# Altium schematic symbol library WE-TVSP.SchLib: 358 symbols (part 5 of 7)
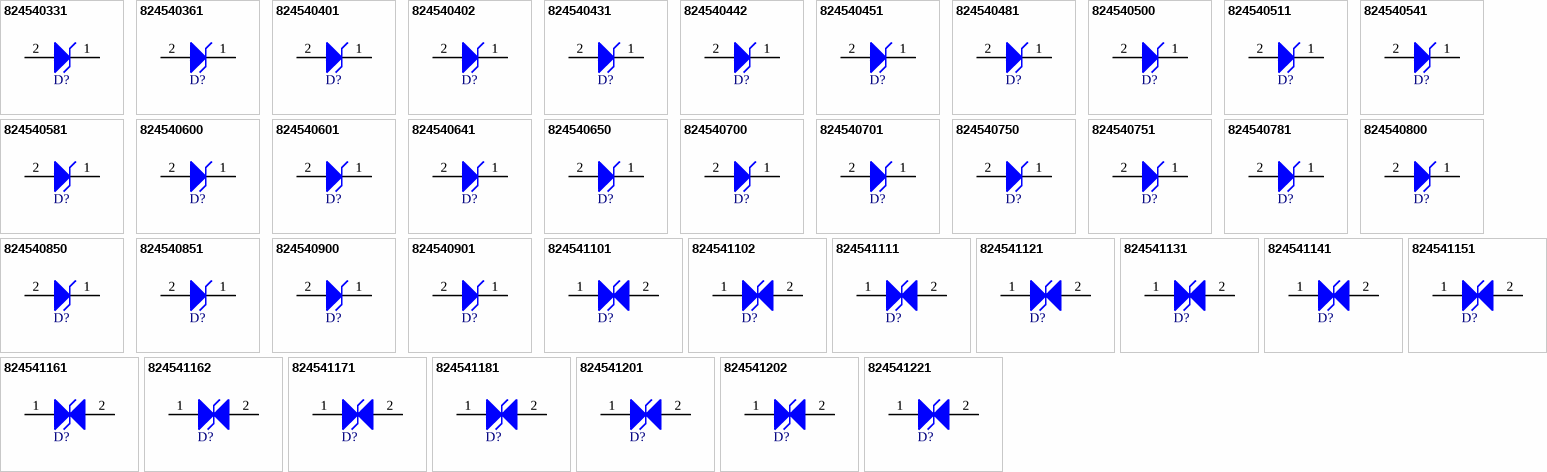
[diagram p12: symbols 824540331 to 824541221]

## 824540750
designator D?, comment 1500W, 7.5VDC  (value not drawn)
WE-TVSP SMT Power TVS Diode, DO-214AB, Unidirectional, 1500W, 7.5VDC; Manufacturer Part Number: 824540750; Manufacturer: Wurth Elektronik; Clamping Voltage: 12.9V; Operating Voltage (DC): 7.5V; (Reverse) Breakdown Voltage: 8.77V; (Reverse) Peak Pulse Current: 116.3A; ComponentLink1Description: Website Link; ComponentLink1URL: https://www.we-online.com/redexpert/article/824540750?ad; ComponentLink2Description: Datasheet Link; ComponentLink2URL: https://www.we-online.com/redexpert/spec/824540750?ad; Category: Surge Protection; Match Code: WE-TVSP; Mount: Surface Mount; Operating Temperature Max: 150°C; Operating Temperature Min: -65°C; Packaging: Tape and Reel; Case/Size Code: DO-214AB; Length: 6.86mm; Width: 5.9mm; Height: 2.5mm; Polarity: Unidirectional; Power Dissipation: 1500W
footprint WE-TVSP_DO-214AB_Unidirectional
pins: 1 K, 2 A

## 824540751
designator D?, comment 1500W, 75VDC  (value not drawn)
WE-TVSP SMT Power TVS Diode, DO-214AB, Unidirectional, 1500W, 75VDC; Manufacturer Part Number: 824540751; Manufacturer: Wurth Elektronik; Clamping Voltage: 121V; Operating Voltage (DC): 75V; (Reverse) Breakdown Voltage: 87.7V; (Reverse) Peak Pulse Current: 12.4A; ComponentLink1Description: Website Link; ComponentLink1URL: https://www.we-online.com/redexpert/article/824540751?ad; ComponentLink2Description: Datasheet Link; ComponentLink2URL: https://www.we-online.com/redexpert/spec/824540751?ad; Category: Surge Protection; Match Code: WE-TVSP; Mount: Surface Mount; Operating Temperature Max: 150°C; Operating Temperature Min: -65°C; Packaging: Tape and Reel; Case/Size Code: DO-214AB; Length: 6.86mm; Width: 5.9mm; Height: 2.5mm; Polarity: Unidirectional; Power Dissipation: 1500W
footprint WE-TVSP_DO-214AB_Unidirectional
pins: 1 K, 2 A

## 824540781
designator D?, comment 1500W, 78VDC  (value not drawn)
WE-TVSP SMT Power TVS Diode, DO-214AB, Unidirectional, 1500W, 78VDC; Manufacturer Part Number: 824540781; Manufacturer: Wurth Elektronik; Clamping Voltage: 126V; Operating Voltage (DC): 78V; (Reverse) Breakdown Voltage: 91.25V; (Reverse) Peak Pulse Current: 11.9A; ComponentLink1Description: Website Link; ComponentLink1URL: https://www.we-online.com/redexpert/article/824540781?ad; ComponentLink2Description: Datasheet Link; ComponentLink2URL: https://www.we-online.com/redexpert/spec/824540781?ad; Category: Surge Protection; Match Code: WE-TVSP; Mount: Surface Mount; Operating Temperature Max: 150°C; Operating Temperature Min: -65°C; Packaging: Tape and Reel; Case/Size Code: DO-214AB; Length: 6.86mm; Width: 5.9mm; Height: 2.5mm; Polarity: Unidirectional; Power Dissipation: 1500W
footprint WE-TVSP_DO-214AB_Unidirectional
pins: 1 K, 2 A

## 824540800
designator D?, comment 1500W, 8VDC  (value not drawn)
WE-TVSP SMT Power TVS Diode, DO-214AB, Unidirectional, 1500W, 8VDC; Manufacturer Part Number: 824540800; Manufacturer: Wurth Elektronik; Clamping Voltage: 13.6V; Operating Voltage (DC): 8V; (Reverse) Breakdown Voltage: 9.36V; (Reverse) Peak Pulse Current: 110.3A; ComponentLink1Description: Website Link; ComponentLink1URL: https://www.we-online.com/redexpert/article/824540800?ad; ComponentLink2Description: Datasheet Link; ComponentLink2URL: https://www.we-online.com/redexpert/spec/824540800?ad; Category: Surge Protection; Match Code: WE-TVSP; Mount: Surface Mount; Operating Temperature Max: 150°C; Operating Temperature Min: -65°C; Packaging: Tape and Reel; Case/Size Code: DO-214AB; Length: 6.86mm; Width: 5.9mm; Height: 2.5mm; Polarity: Unidirectional; Power Dissipation: 1500W
footprint WE-TVSP_DO-214AB_Unidirectional
pins: 1 K, 2 A

## 824540850
designator D?, comment 1500W, 8.5VDC  (value not drawn)
WE-TVSP SMT Power TVS Diode, DO-214AB, Unidirectional, 1500W, 8.5VDC; Manufacturer Part Number: 824540850; Manufacturer: Wurth Elektronik; Clamping Voltage: 14.4V; Operating Voltage (DC): 8.5V; (Reverse) Breakdown Voltage: 9.92V; (Reverse) Peak Pulse Current: 104.2A; ComponentLink1Description: Website Link; ComponentLink1URL: https://www.we-online.com/redexpert/article/824540850?ad; ComponentLink2Description: Datasheet Link; ComponentLink2URL: https://www.we-online.com/redexpert/spec/824540850?ad; Category: Surge Protection; Match Code: WE-TVSP; Mount: Surface Mount; Operating Temperature Max: 150°C; Operating Temperature Min: -65°C; Packaging: Tape and Reel; Case/Size Code: DO-214AB; Length: 6.86mm; Width: 5.9mm; Height: 2.5mm; Polarity: Unidirectional; Power Dissipation: 1500W
footprint WE-TVSP_DO-214AB_Unidirectional
pins: 1 K, 2 A

## 824540851
designator D?, comment 1500W, 85VDC  (value not drawn)
WE-TVSP SMT Power TVS Diode, DO-214AB, Unidirectional, 1500W, 85VDC; Manufacturer Part Number: 824540851; Manufacturer: Wurth Elektronik; Clamping Voltage: 137V; Operating Voltage (DC): 85V; (Reverse) Breakdown Voltage: 99.2V; (Reverse) Peak Pulse Current: 11A; ComponentLink1Description: Website Link; ComponentLink1URL: https://www.we-online.com/redexpert/article/824540851?ad; ComponentLink2Description: Datasheet Link; ComponentLink2URL: https://www.we-online.com/redexpert/spec/824540851?ad; Category: Surge Protection; Match Code: WE-TVSP; Mount: Surface Mount; Operating Temperature Max: 150°C; Operating Temperature Min: -65°C; Packaging: Tape and Reel; Case/Size Code: DO-214AB; Length: 6.86mm; Width: 5.9mm; Height: 2.5mm; Polarity: Unidirectional; Power Dissipation: 1500W
footprint WE-TVSP_DO-214AB_Unidirectional
pins: 1 K, 2 A

## 824540900
designator D?, comment 1500W, 9VDC  (value not drawn)
WE-TVSP SMT Power TVS Diode, DO-214AB, Unidirectional, 1500W, 9VDC; Manufacturer Part Number: 824540900; Manufacturer: Wurth Elektronik; Clamping Voltage: 15.4V; Operating Voltage (DC): 9V; (Reverse) Breakdown Voltage: 10.55V; (Reverse) Peak Pulse Current: 97.4A; ComponentLink1Description: Website Link; ComponentLink1URL: https://www.we-online.com/redexpert/article/824540900?ad; ComponentLink2Description: Datasheet Link; ComponentLink2URL: https://www.we-online.com/redexpert/spec/824540900?ad; Category: Surge Protection; Match Code: WE-TVSP; Mount: Surface Mount; Operating Temperature Max: 150°C; Operating Temperature Min: -65°C; Packaging: Tape and Reel; Case/Size Code: DO-214AB; Length: 6.86mm; Width: 5.9mm; Height: 2.5mm; Polarity: Unidirectional; Power Dissipation: 1500W
footprint WE-TVSP_DO-214AB_Unidirectional
pins: 1 K, 2 A

## 824540901
designator D?, comment 1500W, 90VDC  (value not drawn)
WE-TVSP SMT Power TVS Diode, DO-214AB, Unidirectional, 1500W, 90VDC; Manufacturer Part Number: 824540901; Manufacturer: Wurth Elektronik; Clamping Voltage: 146V; Operating Voltage (DC): 90V; (Reverse) Breakdown Voltage: 105.5V; (Reverse) Peak Pulse Current: 10.3A; ComponentLink1Description: Website Link; ComponentLink1URL: https://www.we-online.com/redexpert/article/824540901?ad; ComponentLink2Description: Datasheet Link; ComponentLink2URL: https://www.we-online.com/redexpert/spec/824540901?ad; Category: Surge Protection; Match Code: WE-TVSP; Mount: Surface Mount; Operating Temperature Max: 150°C; Operating Temperature Min: -65°C; Packaging: Tape and Reel; Case/Size Code: DO-214AB; Length: 6.86mm; Width: 5.9mm; Height: 2.5mm; Polarity: Unidirectional; Power Dissipation: 1500W
footprint WE-TVSP_DO-214AB_Unidirectional
pins: 1 K, 2 A

## 824541101
designator D?, comment 1500W, 10VDC  (value not drawn)
WE-TVSP SMT Power TVS Diode, DO-214AB, Bidirectional, 1500W, 10VDC; Manufacturer Part Number: 824541101; Manufacturer: Wurth Elektronik; Clamping Voltage: 17V; Operating Voltage (DC): 10V; (Reverse) Breakdown Voltage: 11.7V; (Reverse) Peak Pulse Current: 88.3A; ComponentLink1Description: Website Link; ComponentLink1URL: https://www.we-online.com/redexpert/article/824541101?ad; ComponentLink2Description: Datasheet Link; ComponentLink2URL: https://www.we-online.com/redexpert/spec/824541101?ad; Category: Surge Protection; Match Code: WE-TVSP; Mount: Surface Mount; Operating Temperature Max: 150°C; Operating Temperature Min: -65°C; Packaging: Tape and Reel; Case/Size Code: DO-214AB; Length: 6.86mm; Width: 5.9mm; Height: 2.5mm; Polarity: Bidirectional; Power Dissipation: 1500W
footprint WE-TVSP_DO-214AB_Bidirectional
pins: 1, 2

## 824541102
designator D?, comment 1500W, 100VDC  (value not drawn)
WE-TVSP SMT Power TVS Diode, DO-214AB, Bidirectional, 1500W, 100VDC; Manufacturer Part Number: 824541102; Manufacturer: Wurth Elektronik; Clamping Voltage: 162V; Operating Voltage (DC): 100V; (Reverse) Breakdown Voltage: 117V; (Reverse) Peak Pulse Current: 9.3A; ComponentLink1Description: Website Link; ComponentLink1URL: https://www.we-online.com/redexpert/article/824541102?ad; ComponentLink2Description: Datasheet Link; ComponentLink2URL: https://www.we-online.com/redexpert/spec/824541102?ad; Category: Surge Protection; Match Code: WE-TVSP; Mount: Surface Mount; Operating Temperature Max: 150°C; Operating Temperature Min: -65°C; Packaging: Tape and Reel; Case/Size Code: DO-214AB; Length: 6.86mm; Width: 5.9mm; Height: 2.5mm; Polarity: Bidirectional; Power Dissipation: 1500W
footprint WE-TVSP_DO-214AB_Bidirectional
pins: 1, 2

## 824541111
designator D?, comment 1500W, 11VDC  (value not drawn)
WE-TVSP SMT Power TVS Diode, DO-214AB, Bidirectional, 1500W, 11VDC; Manufacturer Part Number: 824541111; Manufacturer: Wurth Elektronik; Clamping Voltage: 18.2V; Operating Voltage (DC): 11V; (Reverse) Breakdown Voltage: 12.85V; (Reverse) Peak Pulse Current: 82.5A; ComponentLink1Description: Website Link; ComponentLink1URL: https://www.we-online.com/redexpert/article/824541111?ad; ComponentLink2Description: Datasheet Link; ComponentLink2URL: https://www.we-online.com/redexpert/spec/824541111?ad; Category: Surge Protection; Match Code: WE-TVSP; Mount: Surface Mount; Operating Temperature Max: 150°C; Operating Temperature Min: -65°C; Packaging: Tape and Reel; Case/Size Code: DO-214AB; Length: 6.86mm; Width: 5.9mm; Height: 2.5mm; Polarity: Bidirectional; Power Dissipation: 1500W
footprint WE-TVSP_DO-214AB_Bidirectional
pins: 1, 2

## 824541121
designator D?, comment 1500W, 12VDC  (value not drawn)
WE-TVSP SMT Power TVS Diode, DO-214AB, Bidirectional, 1500W, 12VDC; Manufacturer Part Number: 824541121; Manufacturer: Wurth Elektronik; Clamping Voltage: 19.9V; Operating Voltage (DC): 12V; (Reverse) Breakdown Voltage: 14V; (Reverse) Peak Pulse Current: 75.4A; ComponentLink1Description: Website Link; ComponentLink1URL: https://www.we-online.com/redexpert/article/824541121?ad; ComponentLink2Description: Datasheet Link; ComponentLink2URL: https://www.we-online.com/redexpert/spec/824541121?ad; Category: Surge Protection; Match Code: WE-TVSP; Mount: Surface Mount; Operating Temperature Max: 150°C; Operating Temperature Min: -65°C; Packaging: Tape and Reel; Case/Size Code: DO-214AB; Length: 6.86mm; Width: 5.9mm; Height: 2.5mm; Polarity: Bidirectional; Power Dissipation: 1500W
footprint WE-TVSP_DO-214AB_Bidirectional
pins: 1, 2

## 824541131
designator D?, comment 1500W, 13VDC  (value not drawn)
WE-TVSP SMT Power TVS Diode, DO-214AB, Bidirectional, 1500W, 13VDC; Manufacturer Part Number: 824541131; Manufacturer: Wurth Elektronik; Clamping Voltage: 21.5V; Operating Voltage (DC): 13V; (Reverse) Breakdown Voltage: 15.15V; (Reverse) Peak Pulse Current: 69.8A; ComponentLink1Description: Website Link; ComponentLink1URL: https://www.we-online.com/redexpert/article/824541131?ad; ComponentLink2Description: Datasheet Link; ComponentLink2URL: https://www.we-online.com/redexpert/spec/824541131?ad; Category: Surge Protection; Match Code: WE-TVSP; Mount: Surface Mount; Operating Temperature Max: 150°C; Operating Temperature Min: -65°C; Packaging: Tape and Reel; Case/Size Code: DO-214AB; Length: 6.86mm; Width: 5.9mm; Height: 2.5mm; Polarity: Bidirectional; Power Dissipation: 1500W
footprint WE-TVSP_DO-214AB_Bidirectional
pins: 1, 2

## 824541141
designator D?, comment 1500W, 14VDC  (value not drawn)
WE-TVSP SMT Power TVS Diode, DO-214AB, Bidirectional, 1500W, 14VDC; Manufacturer Part Number: 824541141; Manufacturer: Wurth Elektronik; Clamping Voltage: 23.2V; Operating Voltage (DC): 14V; (Reverse) Breakdown Voltage: 16.4V; (Reverse) Peak Pulse Current: 64.7A; ComponentLink1Description: Website Link; ComponentLink1URL: https://www.we-online.com/redexpert/article/824541141?ad; ComponentLink2Description: Datasheet Link; ComponentLink2URL: https://www.we-online.com/redexpert/spec/824541141?ad; Category: Surge Protection; Match Code: WE-TVSP; Mount: Surface Mount; Operating Temperature Max: 150°C; Operating Temperature Min: -65°C; Packaging: Tape and Reel; Case/Size Code: DO-214AB; Length: 6.86mm; Width: 5.9mm; Height: 2.5mm; Polarity: Bidirectional; Power Dissipation: 1500W
footprint WE-TVSP_DO-214AB_Bidirectional
pins: 1, 2

## 824541151
designator D?, comment 1500W, 15VDC  (value not drawn)
WE-TVSP SMT Power TVS Diode, DO-214AB, Bidirectional, 1500W, 15VDC; Manufacturer Part Number: 824541151; Manufacturer: Wurth Elektronik; Clamping Voltage: 24.4V; Operating Voltage (DC): 15V; (Reverse) Breakdown Voltage: 17.6V; (Reverse) Peak Pulse Current: 61.5A; ComponentLink1Description: Website Link; ComponentLink1URL: https://www.we-online.com/redexpert/article/824541151?ad; ComponentLink2Description: Datasheet Link; ComponentLink2URL: https://www.we-online.com/redexpert/spec/824541151?ad; Category: Surge Protection; Match Code: WE-TVSP; Mount: Surface Mount; Operating Temperature Max: 150°C; Operating Temperature Min: -65°C; Packaging: Tape and Reel; Case/Size Code: DO-214AB; Length: 6.86mm; Width: 5.9mm; Height: 2.5mm; Polarity: Bidirectional; Power Dissipation: 1500W
footprint WE-TVSP_DO-214AB_Bidirectional
pins: 1, 2

## 824541161
designator D?, comment 1500W, 16VDC  (value not drawn)
WE-TVSP SMT Power TVS Diode, DO-214AB, Bidirectional, 1500W, 16VDC; Manufacturer Part Number: 824541161; Manufacturer: Wurth Elektronik; Clamping Voltage: 26V; Operating Voltage (DC): 16V; (Reverse) Breakdown Voltage: 18.75V; (Reverse) Peak Pulse Current: 57.7A; ComponentLink1Description: Website Link; ComponentLink1URL: https://www.we-online.com/redexpert/article/824541161?ad; ComponentLink2Description: Datasheet Link; ComponentLink2URL: https://www.we-online.com/redexpert/spec/824541161?ad; Category: Surge Protection; Match Code: WE-TVSP; Mount: Surface Mount; Operating Temperature Max: 150°C; Operating Temperature Min: -65°C; Packaging: Tape and Reel; Case/Size Code: DO-214AB; Length: 6.86mm; Width: 5.9mm; Height: 2.5mm; Polarity: Bidirectional; Power Dissipation: 1500W
footprint WE-TVSP_DO-214AB_Bidirectional
pins: 1, 2

## 824541162
designator D?, comment 1500W, 160VDC  (value not drawn)
WE-TVSP SMT Power TVS Diode, DO-214AB, Bidirectional, 1500W, 160VDC; Manufacturer Part Number: 824541162; Manufacturer: Wurth Elektronik; Clamping Voltage: 259V; Operating Voltage (DC): 160V; (Reverse) Breakdown Voltage: 187.5V; (Reverse) Peak Pulse Current: 5.8A; ComponentLink1Description: Website Link; ComponentLink1URL: https://www.we-online.com/redexpert/article/824541162?ad; ComponentLink2Description: Datasheet Link; ComponentLink2URL: https://www.we-online.com/redexpert/spec/824541162?ad; Category: Surge Protection; Match Code: WE-TVSP; Mount: Surface Mount; Operating Temperature Max: 150°C; Operating Temperature Min: -65°C; Packaging: Tape and Reel; Case/Size Code: DO-214AB; Length: 6.86mm; Width: 5.9mm; Height: 2.5mm; Polarity: Bidirectional; Power Dissipation: 1500W
footprint WE-TVSP_DO-214AB_Bidirectional
pins: 1, 2

## 824541171
designator D?, comment 1500W, 17VDC  (value not drawn)
WE-TVSP SMT Power TVS Diode, DO-214AB, Bidirectional, 1500W, 17VDC; Manufacturer Part Number: 824541171; Manufacturer: Wurth Elektronik; Clamping Voltage: 27.6V; Operating Voltage (DC): 17V; (Reverse) Breakdown Voltage: 19.9V; (Reverse) Peak Pulse Current: 54.4A; ComponentLink1Description: Website Link; ComponentLink1URL: https://www.we-online.com/redexpert/article/824541171?ad; ComponentLink2Description: Datasheet Link; ComponentLink2URL: https://www.we-online.com/redexpert/spec/824541171?ad; Category: Surge Protection; Match Code: WE-TVSP; Mount: Surface Mount; Operating Temperature Max: 150°C; Operating Temperature Min: -65°C; Packaging: Tape and Reel; Case/Size Code: DO-214AB; Length: 6.86mm; Width: 5.9mm; Height: 2.5mm; Polarity: Bidirectional; Power Dissipation: 1500W
footprint WE-TVSP_DO-214AB_Bidirectional
pins: 1, 2

## 824541181
designator D?, comment 1500W, 18VDC  (value not drawn)
WE-TVSP SMT Power TVS Diode, DO-214AB, Bidirectional, 1500W, 18VDC; Manufacturer Part Number: 824541181; Manufacturer: Wurth Elektronik; Clamping Voltage: 29.2V; Operating Voltage (DC): 18V; (Reverse) Breakdown Voltage: 21.05V; (Reverse) Peak Pulse Current: 51.4A; ComponentLink1Description: Website Link; ComponentLink1URL: https://www.we-online.com/redexpert/article/824541181?ad; ComponentLink2Description: Datasheet Link; ComponentLink2URL: https://www.we-online.com/redexpert/spec/824541181?ad; Category: Surge Protection; Match Code: WE-TVSP; Mount: Surface Mount; Operating Temperature Max: 150°C; Operating Temperature Min: -65°C; Packaging: Tape and Reel; Case/Size Code: DO-214AB; Length: 6.86mm; Width: 5.9mm; Height: 2.5mm; Polarity: Bidirectional; Power Dissipation: 1500W
footprint WE-TVSP_DO-214AB_Bidirectional
pins: 1, 2

## 824541201
designator D?, comment 1500W, 20VDC  (value not drawn)
WE-TVSP SMT Power TVS Diode, DO-214AB, Bidirectional, 1500W, 20VDC; Manufacturer Part Number: 824541201; Manufacturer: Wurth Elektronik; Clamping Voltage: 32.4V; Operating Voltage (DC): 20V; (Reverse) Breakdown Voltage: 23.35V; (Reverse) Peak Pulse Current: 46.3A; ComponentLink1Description: Website Link; ComponentLink1URL: https://www.we-online.com/redexpert/article/824541201?ad; ComponentLink2Description: Datasheet Link; ComponentLink2URL: https://www.we-online.com/redexpert/spec/824541201?ad; Category: Surge Protection; Match Code: WE-TVSP; Mount: Surface Mount; Operating Temperature Max: 150°C; Operating Temperature Min: -65°C; Packaging: Tape and Reel; Case/Size Code: DO-214AB; Length: 6.86mm; Width: 5.9mm; Height: 2.5mm; Polarity: Bidirectional; Power Dissipation: 1500W
footprint WE-TVSP_DO-214AB_Bidirectional
pins: 1, 2

## 824541202
designator D?, comment 1500W, 200VDC  (value not drawn)
WE-TVSP SMT Power TVS Diode, DO-214AB, Bidirectional, 1500W, 200VDC; Manufacturer Part Number: 824541202; Manufacturer: Wurth Elektronik; Clamping Voltage: 324V; Operating Voltage (DC): 200V; (Reverse) Breakdown Voltage: 235.5V; (Reverse) Peak Pulse Current: 4.6A; ComponentLink1Description: Website Link; ComponentLink1URL: https://www.we-online.com/redexpert/article/824541202?ad; ComponentLink2Description: Datasheet Link; ComponentLink2URL: https://www.we-online.com/redexpert/spec/824541202?ad; Category: Surge Protection; Match Code: WE-TVSP; Mount: Surface Mount; Operating Temperature Max: 150°C; Operating Temperature Min: -65°C; Packaging: Tape and Reel; Case/Size Code: DO-214AB; Length: 6.86mm; Width: 5.9mm; Height: 2.5mm; Polarity: Bidirectional; Power Dissipation: 1500W
footprint WE-TVSP_DO-214AB_Bidirectional
pins: 1, 2

## 824541221
designator D?, comment 1500W, 22VDC  (value not drawn)
WE-TVSP SMT Power TVS Diode, DO-214AB, Bidirectional, 1500W, 22VDC; Manufacturer Part Number: 824541221; Manufacturer: Wurth Elektronik; Clamping Voltage: 35.5V; Operating Voltage (DC): 22V; (Reverse) Breakdown Voltage: 25.65V; (Reverse) Peak Pulse Current: 42.3A; ComponentLink1Description: Website Link; ComponentLink1URL: https://www.we-online.com/redexpert/article/824541221?ad; ComponentLink2Description: Datasheet Link; ComponentLink2URL: https://www.we-online.com/redexpert/spec/824541221?ad; Category: Surge Protection; Match Code: WE-TVSP; Mount: Surface Mount; Operating Temperature Max: 150°C; Operating Temperature Min: -65°C; Packaging: Tape and Reel; Case/Size Code: DO-214AB; Length: 6.86mm; Width: 5.9mm; Height: 2.5mm; Polarity: Bidirectional; Power Dissipation: 1500W
footprint WE-TVSP_DO-214AB_Bidirectional
pins: 1, 2

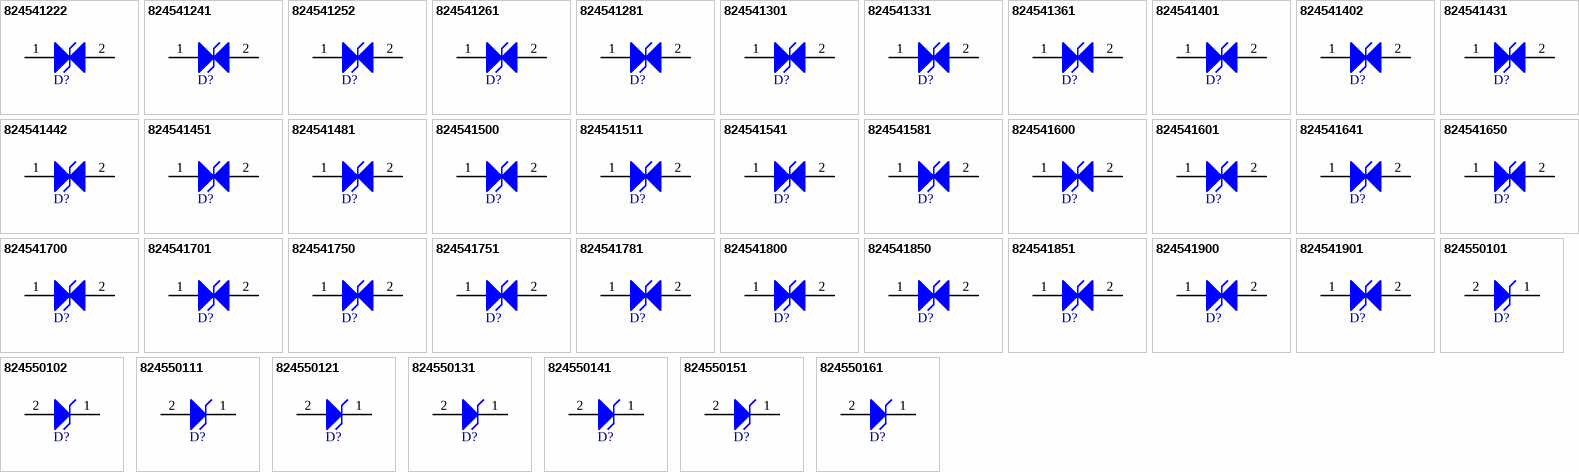
[diagram p6: symbols 824541222 to 824550161]

## 824541222
designator D?, comment 1500W, 220VDC  (value not drawn)
WE-TVSP SMT Power TVS Diode, DO-214AB, Bidirectional, 1500W, 220VDC; Manufacturer Part Number: 824541222; Manufacturer: Wurth Elektronik; Clamping Voltage: 356V; Operating Voltage (DC): 220V; (Reverse) Breakdown Voltage: 259V; (Reverse) Peak Pulse Current: 4.2A; ComponentLink1Description: Website Link; ComponentLink1URL: https://www.we-online.com/redexpert/article/824541222?ad; ComponentLink2Description: Datasheet Link; ComponentLink2URL: https://www.we-online.com/redexpert/spec/824541222?ad; Category: Surge Protection; Match Code: WE-TVSP; Mount: Surface Mount; Operating Temperature Max: 150°C; Operating Temperature Min: -65°C; Packaging: Tape and Reel; Case/Size Code: DO-214AB; Length: 6.86mm; Width: 5.9mm; Height: 2.5mm; Polarity: Bidirectional; Power Dissipation: 1500W
footprint WE-TVSP_DO-214AB_Bidirectional
pins: 1, 2

## 824541241
designator D?, comment 1500W, 24VDC  (value not drawn)
WE-TVSP SMT Power TVS Diode, DO-214AB, Bidirectional, 1500W, 24VDC; Manufacturer Part Number: 824541241; Manufacturer: Wurth Elektronik; Clamping Voltage: 38.9V; Operating Voltage (DC): 24V; (Reverse) Breakdown Voltage: 28.1V; (Reverse) Peak Pulse Current: 38.6A; ComponentLink1Description: Website Link; ComponentLink1URL: https://www.we-online.com/redexpert/article/824541241?ad; ComponentLink2Description: Datasheet Link; ComponentLink2URL: https://www.we-online.com/redexpert/spec/824541241?ad; Category: Surge Protection; Match Code: WE-TVSP; Mount: Surface Mount; Operating Temperature Max: 150°C; Operating Temperature Min: -65°C; Packaging: Tape and Reel; Case/Size Code: DO-214AB; Length: 6.86mm; Width: 5.9mm; Height: 2.5mm; Polarity: Bidirectional; Power Dissipation: 1500W
footprint WE-TVSP_DO-214AB_Bidirectional
pins: 1, 2

## 824541252
designator D?, comment 1500W, 250VDC  (value not drawn)
WE-TVSP SMT Power TVS Diode, DO-214AB, Bidirectional, 1500W, 250VDC; Manufacturer Part Number: 824541252; Manufacturer: Wurth Elektronik; Clamping Voltage: 405V; Operating Voltage (DC): 250V; (Reverse) Breakdown Voltage: 294V; (Reverse) Peak Pulse Current: 3.7A; ComponentLink1Description: Website Link; ComponentLink1URL: https://www.we-online.com/redexpert/article/824541252?ad; ComponentLink2Description: Datasheet Link; ComponentLink2URL: https://www.we-online.com/redexpert/spec/824541252?ad; Category: Surge Protection; Match Code: WE-TVSP; Mount: Surface Mount; Operating Temperature Max: 150°C; Operating Temperature Min: -65°C; Packaging: Tape and Reel; Case/Size Code: DO-214AB; Length: 6.86mm; Width: 5.9mm; Height: 2.5mm; Polarity: Bidirectional; Power Dissipation: 1500W
footprint WE-TVSP_DO-214AB_Bidirectional
pins: 1, 2

## 824541261
designator D?, comment 1500W, 26VDC  (value not drawn)
WE-TVSP SMT Power TVS Diode, DO-214AB, Bidirectional, 1500W, 26VDC; Manufacturer Part Number: 824541261; Manufacturer: Wurth Elektronik; Clamping Voltage: 42.1V; Operating Voltage (DC): 26V; (Reverse) Breakdown Voltage: 30.4V; (Reverse) Peak Pulse Current: 35.7A; ComponentLink1Description: Website Link; ComponentLink1URL: https://www.we-online.com/redexpert/article/824541261?ad; ComponentLink2Description: Datasheet Link; ComponentLink2URL: https://www.we-online.com/redexpert/spec/824541261?ad; Category: Surge Protection; Match Code: WE-TVSP; Mount: Surface Mount; Operating Temperature Max: 150°C; Operating Temperature Min: -65°C; Packaging: Tape and Reel; Case/Size Code: DO-214AB; Length: 6.86mm; Width: 5.9mm; Height: 2.5mm; Polarity: Bidirectional; Power Dissipation: 1500W
footprint WE-TVSP_DO-214AB_Bidirectional
pins: 1, 2

## 824541281
designator D?, comment 1500W, 28VDC  (value not drawn)
WE-TVSP SMT Power TVS Diode, DO-214AB, Bidirectional, 1500W, 28VDC; Manufacturer Part Number: 824541281; Manufacturer: Wurth Elektronik; Clamping Voltage: 45.4V; Operating Voltage (DC): 28V; (Reverse) Breakdown Voltage: 32.75V; (Reverse) Peak Pulse Current: 33.1A; ComponentLink1Description: Website Link; ComponentLink1URL: https://www.we-online.com/redexpert/article/824541281?ad; ComponentLink2Description: Datasheet Link; ComponentLink2URL: https://www.we-online.com/redexpert/spec/824541281?ad; Category: Surge Protection; Match Code: WE-TVSP; Mount: Surface Mount; Operating Temperature Max: 150°C; Operating Temperature Min: -65°C; Packaging: Tape and Reel; Case/Size Code: DO-214AB; Length: 6.86mm; Width: 5.9mm; Height: 2.5mm; Polarity: Bidirectional; Power Dissipation: 1500W
footprint WE-TVSP_DO-214AB_Bidirectional
pins: 1, 2

## 824541301
designator D?, comment 1500W, 30VDC  (value not drawn)
WE-TVSP SMT Power TVS Diode, DO-214AB, Bidirectional, 1500W, 30VDC; Manufacturer Part Number: 824541301; Manufacturer: Wurth Elektronik; Clamping Voltage: 48.4V; Operating Voltage (DC): 30V; (Reverse) Breakdown Voltage: 35.05V; (Reverse) Peak Pulse Current: 31A; ComponentLink1Description: Website Link; ComponentLink1URL: https://www.we-online.com/redexpert/article/824541301?ad; ComponentLink2Description: Datasheet Link; ComponentLink2URL: https://www.we-online.com/redexpert/spec/824541301?ad; Category: Surge Protection; Match Code: WE-TVSP; Mount: Surface Mount; Operating Temperature Max: 150°C; Operating Temperature Min: -65°C; Packaging: Tape and Reel; Case/Size Code: DO-214AB; Length: 6.86mm; Width: 5.9mm; Height: 2.5mm; Polarity: Bidirectional; Power Dissipation: 1500W
footprint WE-TVSP_DO-214AB_Bidirectional
pins: 1, 2

## 824541331
designator D?, comment 1500W, 33VDC  (value not drawn)
WE-TVSP SMT Power TVS Diode, DO-214AB, Bidirectional, 1500W, 33VDC; Manufacturer Part Number: 824541331; Manufacturer: Wurth Elektronik; Clamping Voltage: 53.3V; Operating Voltage (DC): 33V; (Reverse) Breakdown Voltage: 38.65V; (Reverse) Peak Pulse Current: 28.2A; ComponentLink1Description: Website Link; ComponentLink1URL: https://www.we-online.com/redexpert/article/824541331?ad; ComponentLink2Description: Datasheet Link; ComponentLink2URL: https://www.we-online.com/redexpert/spec/824541331?ad; Category: Surge Protection; Match Code: WE-TVSP; Mount: Surface Mount; Operating Temperature Max: 150°C; Operating Temperature Min: -65°C; Packaging: Tape and Reel; Case/Size Code: DO-214AB; Length: 6.86mm; Width: 5.9mm; Height: 2.5mm; Polarity: Bidirectional; Power Dissipation: 1500W
footprint WE-TVSP_DO-214AB_Bidirectional
pins: 1, 2

## 824541361
designator D?, comment 1500W, 36VDC  (value not drawn)
WE-TVSP SMT Power TVS Diode, DO-214AB, Bidirectional, 1500W, 36VDC; Manufacturer Part Number: 824541361; Manufacturer: Wurth Elektronik; Clamping Voltage: 58.1V; Operating Voltage (DC): 36V; (Reverse) Breakdown Voltage: 42.1V; (Reverse) Peak Pulse Current: 25.9A; ComponentLink1Description: Website Link; ComponentLink1URL: https://www.we-online.com/redexpert/article/824541361?ad; ComponentLink2Description: Datasheet Link; ComponentLink2URL: https://www.we-online.com/redexpert/spec/824541361?ad; Category: Surge Protection; Match Code: WE-TVSP; Mount: Surface Mount; Operating Temperature Max: 150°C; Operating Temperature Min: -65°C; Packaging: Tape and Reel; Case/Size Code: DO-214AB; Length: 6.86mm; Width: 5.9mm; Height: 2.5mm; Polarity: Bidirectional; Power Dissipation: 1500W
footprint WE-TVSP_DO-214AB_Bidirectional
pins: 1, 2

## 824541401
designator D?, comment 1500W, 40VDC  (value not drawn)
WE-TVSP SMT Power TVS Diode, DO-214AB, Bidirectional, 1500W, 40VDC; Manufacturer Part Number: 824541401; Manufacturer: Wurth Elektronik; Clamping Voltage: 64.5V; Operating Voltage (DC): 40V; (Reverse) Breakdown Voltage: 46.75V; (Reverse) Peak Pulse Current: 23.3A; ComponentLink1Description: Website Link; ComponentLink1URL: https://www.we-online.com/redexpert/article/824541401?ad; ComponentLink2Description: Datasheet Link; ComponentLink2URL: https://www.we-online.com/redexpert/spec/824541401?ad; Category: Surge Protection; Match Code: WE-TVSP; Mount: Surface Mount; Operating Temperature Max: 150°C; Operating Temperature Min: -65°C; Packaging: Tape and Reel; Case/Size Code: DO-214AB; Length: 6.86mm; Width: 5.9mm; Height: 2.5mm; Polarity: Bidirectional; Power Dissipation: 1500W
footprint WE-TVSP_DO-214AB_Bidirectional
pins: 1, 2

## 824541402
designator D?, comment 1500W, 400VDC  (value not drawn)
WE-TVSP SMT Power TVS Diode, DO-214AB, Bidirectional, 1500W, 400VDC; Manufacturer Part Number: 824541402; Manufacturer: Wurth Elektronik; Clamping Voltage: 648V; Operating Voltage (DC): 400V; (Reverse) Breakdown Voltage: 470.5V; (Reverse) Peak Pulse Current: 2.3A; ComponentLink1Description: Website Link; ComponentLink1URL: https://www.we-online.com/redexpert/article/824541402?ad; ComponentLink2Description: Datasheet Link; ComponentLink2URL: https://www.we-online.com/redexpert/spec/824541402?ad; Category: Surge Protection; Match Code: WE-TVSP; Mount: Surface Mount; Operating Temperature Max: 150°C; Operating Temperature Min: -65°C; Packaging: Tape and Reel; Case/Size Code: DO-214AB; Length: 6.86mm; Width: 5.9mm; Height: 2.5mm; Polarity: Bidirectional; Power Dissipation: 1500W
footprint WE-TVSP_DO-214AB_Bidirectional
pins: 1, 2

## 824541431
designator D?, comment 1500W, 43VDC  (value not drawn)
WE-TVSP SMT Power TVS Diode, DO-214AB, Bidirectional, 1500W, 43VDC; Manufacturer Part Number: 824541431; Manufacturer: Wurth Elektronik; Clamping Voltage: 69.4V; Operating Voltage (DC): 43V; (Reverse) Breakdown Voltage: 50.3V; (Reverse) Peak Pulse Current: 21.7A; ComponentLink1Description: Website Link; ComponentLink1URL: https://www.we-online.com/redexpert/article/824541431?ad; ComponentLink2Description: Datasheet Link; ComponentLink2URL: https://www.we-online.com/redexpert/spec/824541431?ad; Category: Surge Protection; Match Code: WE-TVSP; Mount: Surface Mount; Operating Temperature Max: 150°C; Operating Temperature Min: -65°C; Packaging: Tape and Reel; Case/Size Code: DO-214AB; Length: 6.86mm; Width: 5.9mm; Height: 2.5mm; Polarity: Bidirectional; Power Dissipation: 1500W
footprint WE-TVSP_DO-214AB_Bidirectional
pins: 1, 2

## 824541442
designator D?, comment 1500W, 440VDC  (value not drawn)
WE-TVSP SMT Power TVS Diode, DO-214AB, Bidirectional, 1500W, 440VDC; Manufacturer Part Number: 824541442; Manufacturer: Wurth Elektronik; Clamping Voltage: 713V; Operating Voltage (DC): 440V; (Reverse) Breakdown Voltage: 517.5V; (Reverse) Peak Pulse Current: 2.1A; ComponentLink1Description: Website Link; ComponentLink1URL: https://www.we-online.com/redexpert/article/824541442?ad; ComponentLink2Description: Datasheet Link; ComponentLink2URL: https://www.we-online.com/redexpert/spec/824541442?ad; Category: Surge Protection; Match Code: WE-TVSP; Mount: Surface Mount; Operating Temperature Max: 150°C; Operating Temperature Min: -65°C; Packaging: Tape and Reel; Case/Size Code: DO-214AB; Length: 6.86mm; Width: 5.9mm; Height: 2.5mm; Polarity: Bidirectional; Power Dissipation: 1500W
footprint WE-TVSP_DO-214AB_Bidirectional
pins: 1, 2

## 824541451
designator D?, comment 1500W, 45VDC  (value not drawn)
WE-TVSP SMT Power TVS Diode, DO-214AB, Bidirectional, 1500W, 45VDC; Manufacturer Part Number: 824541451; Manufacturer: Wurth Elektronik; Clamping Voltage: 72.7V; Operating Voltage (DC): 45V; (Reverse) Breakdown Voltage: 52.65V; (Reverse) Peak Pulse Current: 20.6A; ComponentLink1Description: Website Link; ComponentLink1URL: https://www.we-online.com/redexpert/article/824541451?ad; ComponentLink2Description: Datasheet Link; ComponentLink2URL: https://www.we-online.com/redexpert/spec/824541451?ad; Category: Surge Protection; Match Code: WE-TVSP; Mount: Surface Mount; Operating Temperature Max: 150°C; Operating Temperature Min: -65°C; Packaging: Tape and Reel; Case/Size Code: DO-214AB; Length: 6.86mm; Width: 5.9mm; Height: 2.5mm; Polarity: Bidirectional; Power Dissipation: 1500W
footprint WE-TVSP_DO-214AB_Bidirectional
pins: 1, 2

## 824541481
designator D?, comment 1500W, 48VDC  (value not drawn)
WE-TVSP SMT Power TVS Diode, DO-214AB, Bidirectional, 1500W, 48VDC; Manufacturer Part Number: 824541481; Manufacturer: Wurth Elektronik; Clamping Voltage: 77.4V; Operating Voltage (DC): 48V; (Reverse) Breakdown Voltage: 56.1V; (Reverse) Peak Pulse Current: 19.4A; ComponentLink1Description: Website Link; ComponentLink1URL: https://www.we-online.com/redexpert/article/824541481?ad; ComponentLink2Description: Datasheet Link; ComponentLink2URL: https://www.we-online.com/redexpert/spec/824541481?ad; Category: Surge Protection; Match Code: WE-TVSP; Mount: Surface Mount; Operating Temperature Max: 150°C; Operating Temperature Min: -65°C; Packaging: Tape and Reel; Case/Size Code: DO-214AB; Length: 6.86mm; Width: 5.9mm; Height: 2.5mm; Polarity: Bidirectional; Power Dissipation: 1500W
footprint WE-TVSP_DO-214AB_Bidirectional
pins: 1, 2

## 824541500
designator D?, comment 1500W, 5VDC  (value not drawn)
WE-TVSP SMT Power TVS Diode, DO-214AB, Bidirectional, 1500W, 5VDC; Manufacturer Part Number: 824541500; Manufacturer: Wurth Elektronik; Clamping Voltage: 9.2V; Operating Voltage (DC): 5V; (Reverse) Breakdown Voltage: 6.7V; (Reverse) Peak Pulse Current: 163A; ComponentLink1Description: Website Link; ComponentLink1URL: https://www.we-online.com/redexpert/article/824541500?ad; ComponentLink2Description: Datasheet Link; ComponentLink2URL: https://www.we-online.com/redexpert/spec/824541500?ad; Category: Surge Protection; Match Code: WE-TVSP; Mount: Surface Mount; Operating Temperature Max: 150°C; Operating Temperature Min: -65°C; Packaging: Tape and Reel; Case/Size Code: DO-214AB; Length: 6.86mm; Width: 5.9mm; Height: 2.5mm; Polarity: Bidirectional; Power Dissipation: 1500W
footprint WE-TVSP_DO-214AB_Bidirectional
pins: 1, 2

## 824541511
designator D?, comment 1500W, 51VDC  (value not drawn)
WE-TVSP SMT Power TVS Diode, DO-214AB, Bidirectional, 1500W, 51VDC; Manufacturer Part Number: 824541511; Manufacturer: Wurth Elektronik; Clamping Voltage: 82.4V; Operating Voltage (DC): 51V; (Reverse) Breakdown Voltage: 59.7V; (Reverse) Peak Pulse Current: 18.2A; ComponentLink1Description: Website Link; ComponentLink1URL: https://www.we-online.com/redexpert/article/824541511?ad; ComponentLink2Description: Datasheet Link; ComponentLink2URL: https://www.we-online.com/redexpert/spec/824541511?ad; Category: Surge Protection; Match Code: WE-TVSP; Mount: Surface Mount; Operating Temperature Max: 150°C; Operating Temperature Min: -65°C; Packaging: Tape and Reel; Case/Size Code: DO-214AB; Length: 6.86mm; Width: 5.9mm; Height: 2.5mm; Polarity: Bidirectional; Power Dissipation: 1500W
footprint WE-TVSP_DO-214AB_Bidirectional
pins: 1, 2

## 824541541
designator D?, comment 1500W, 54VDC  (value not drawn)
WE-TVSP SMT Power TVS Diode, DO-214AB, Bidirectional, 1500W, 54VDC; Manufacturer Part Number: 824541541; Manufacturer: Wurth Elektronik; Clamping Voltage: 87.1V; Operating Voltage (DC): 54V; (Reverse) Breakdown Voltage: 63.15V; (Reverse) Peak Pulse Current: 17.3A; ComponentLink1Description: Website Link; ComponentLink1URL: https://www.we-online.com/redexpert/article/824541541?ad; ComponentLink2Description: Datasheet Link; ComponentLink2URL: https://www.we-online.com/redexpert/spec/824541541?ad; Category: Surge Protection; Match Code: WE-TVSP; Mount: Surface Mount; Operating Temperature Max: 150°C; Operating Temperature Min: -65°C; Packaging: Tape and Reel; Case/Size Code: DO-214AB; Length: 6.86mm; Width: 5.9mm; Height: 2.5mm; Polarity: Bidirectional; Power Dissipation: 1500W
footprint WE-TVSP_DO-214AB_Bidirectional
pins: 1, 2

## 824541581
designator D?, comment 1500W, 58VDC  (value not drawn)
WE-TVSP SMT Power TVS Diode, DO-214AB, Bidirectional, 1500W, 58VDC; Manufacturer Part Number: 824541581; Manufacturer: Wurth Elektronik; Clamping Voltage: 93.6V; Operating Voltage (DC): 58V; (Reverse) Breakdown Voltage: 67.8V; (Reverse) Peak Pulse Current: 16.1A; ComponentLink1Description: Website Link; ComponentLink1URL: https://www.we-online.com/redexpert/article/824541581?ad; ComponentLink2Description: Datasheet Link; ComponentLink2URL: https://www.we-online.com/redexpert/spec/824541581?ad; Category: Surge Protection; Match Code: WE-TVSP; Mount: Surface Mount; Operating Temperature Max: 150°C; Operating Temperature Min: -65°C; Packaging: Tape and Reel; Case/Size Code: DO-214AB; Length: 6.86mm; Width: 5.9mm; Height: 2.5mm; Polarity: Bidirectional; Power Dissipation: 1500W
footprint WE-TVSP_DO-214AB_Bidirectional
pins: 1, 2

## 824541600
designator D?, comment 1500W, 6VDC  (value not drawn)
WE-TVSP SMT Power TVS Diode, DO-214AB, Bidirectional, 1500W, 6VDC; Manufacturer Part Number: 824541600; Manufacturer: Wurth Elektronik; Clamping Voltage: 10.3V; Operating Voltage (DC): 6V; (Reverse) Breakdown Voltage: 7.02V; (Reverse) Peak Pulse Current: 145.7A; ComponentLink1Description: Website Link; ComponentLink1URL: https://www.we-online.com/redexpert/article/824541600?ad; ComponentLink2Description: Datasheet Link; ComponentLink2URL: https://www.we-online.com/redexpert/spec/824541600?ad; Category: Surge Protection; Match Code: WE-TVSP; Mount: Surface Mount; Operating Temperature Max: 150°C; Operating Temperature Min: -65°C; Packaging: Tape and Reel; Case/Size Code: DO-214AB; Length: 6.86mm; Width: 5.9mm; Height: 2.5mm; Polarity: Bidirectional; Power Dissipation: 1500W
footprint WE-TVSP_DO-214AB_Bidirectional
pins: 1, 2

## 824541601
designator D?, comment 1500W, 60VDC  (value not drawn)
WE-TVSP SMT Power TVS Diode, DO-214AB, Bidirectional, 1500W, 60VDC; Manufacturer Part Number: 824541601; Manufacturer: Wurth Elektronik; Clamping Voltage: 96.8V; Operating Voltage (DC): 60V; (Reverse) Breakdown Voltage: 70.2V; (Reverse) Peak Pulse Current: 15.5A; ComponentLink1Description: Website Link; ComponentLink1URL: https://www.we-online.com/redexpert/article/824541601?ad; ComponentLink2Description: Datasheet Link; ComponentLink2URL: https://www.we-online.com/redexpert/spec/824541601?ad; Category: Surge Protection; Match Code: WE-TVSP; Mount: Surface Mount; Operating Temperature Max: 150°C; Operating Temperature Min: -65°C; Packaging: Tape and Reel; Case/Size Code: DO-214AB; Length: 6.86mm; Width: 5.9mm; Height: 2.5mm; Polarity: Bidirectional; Power Dissipation: 1500W
footprint WE-TVSP_DO-214AB_Bidirectional
pins: 1, 2

## 824541641
designator D?, comment 1500W, 64VDC  (value not drawn)
WE-TVSP SMT Power TVS Diode, DO-214AB, Bidirectional, 1500W, 64VDC; Manufacturer Part Number: 824541641; Manufacturer: Wurth Elektronik; Clamping Voltage: 103V; Operating Voltage (DC): 64V; (Reverse) Breakdown Voltage: 74.85V; (Reverse) Peak Pulse Current: 14.6A; ComponentLink1Description: Website Link; ComponentLink1URL: https://www.we-online.com/redexpert/article/824541641?ad; ComponentLink2Description: Datasheet Link; ComponentLink2URL: https://www.we-online.com/redexpert/spec/824541641?ad; Category: Surge Protection; Match Code: WE-TVSP; Mount: Surface Mount; Operating Temperature Max: 150°C; Operating Temperature Min: -65°C; Packaging: Tape and Reel; Case/Size Code: DO-214AB; Length: 6.86mm; Width: 5.9mm; Height: 2.5mm; Polarity: Bidirectional; Power Dissipation: 1500W
footprint WE-TVSP_DO-214AB_Bidirectional
pins: 1, 2

## 824541650
designator D?, comment 1500W, 6.5VDC  (value not drawn)
WE-TVSP SMT Power TVS Diode, DO-214AB, Bidirectional, 1500W, 6.5VDC; Manufacturer Part Number: 824541650; Manufacturer: Wurth Elektronik; Clamping Voltage: 11.2V; Operating Voltage (DC): 6.5V; (Reverse) Breakdown Voltage: 7.6V; (Reverse) Peak Pulse Current: 134A; ComponentLink1Description: Website Link; ComponentLink1URL: https://www.we-online.com/redexpert/article/824541650?ad; ComponentLink2Description: Datasheet Link; ComponentLink2URL: https://www.we-online.com/redexpert/spec/824541650?ad; Category: Surge Protection; Match Code: WE-TVSP; Mount: Surface Mount; Operating Temperature Max: 150°C; Operating Temperature Min: -65°C; Packaging: Tape and Reel; Case/Size Code: DO-214AB; Length: 6.86mm; Width: 5.9mm; Height: 2.5mm; Polarity: Bidirectional; Power Dissipation: 1500W
footprint WE-TVSP_DO-214AB_Bidirectional
pins: 1, 2

## 824541700
designator D?, comment 1500W, 7VDC  (value not drawn)
WE-TVSP SMT Power TVS Diode, DO-214AB, Bidirectional, 1500W, 7VDC; Manufacturer Part Number: 824541700; Manufacturer: Wurth Elektronik; Clamping Voltage: 12V; Operating Voltage (DC): 7V; (Reverse) Breakdown Voltage: 8.19V; (Reverse) Peak Pulse Current: 125A; ComponentLink1Description: Website Link; ComponentLink1URL: https://www.we-online.com/redexpert/article/824541700?ad; ComponentLink2Description: Datasheet Link; ComponentLink2URL: https://www.we-online.com/redexpert/spec/824541700?ad; Category: Surge Protection; Match Code: WE-TVSP; Mount: Surface Mount; Operating Temperature Max: 150°C; Operating Temperature Min: -65°C; Packaging: Tape and Reel; Case/Size Code: DO-214AB; Length: 6.86mm; Width: 5.9mm; Height: 2.5mm; Polarity: Bidirectional; Power Dissipation: 1500W
footprint WE-TVSP_DO-214AB_Bidirectional
pins: 1, 2

## 824541701
designator D?, comment 1500W, 70VDC  (value not drawn)
WE-TVSP SMT Power TVS Diode, DO-214AB, Bidirectional, 1500W, 70VDC; Manufacturer Part Number: 824541701; Manufacturer: Wurth Elektronik; Clamping Voltage: 113V; Operating Voltage (DC): 70V; (Reverse) Breakdown Voltage: 81.9V; (Reverse) Peak Pulse Current: 13.3A; ComponentLink1Description: Website Link; ComponentLink1URL: https://www.we-online.com/redexpert/article/824541701?ad; ComponentLink2Description: Datasheet Link; ComponentLink2URL: https://www.we-online.com/redexpert/spec/824541701?ad; Category: Surge Protection; Match Code: WE-TVSP; Mount: Surface Mount; Operating Temperature Max: 150°C; Operating Temperature Min: -65°C; Packaging: Tape and Reel; Case/Size Code: DO-214AB; Length: 6.86mm; Width: 5.9mm; Height: 2.5mm; Polarity: Bidirectional; Power Dissipation: 1500W
footprint WE-TVSP_DO-214AB_Bidirectional
pins: 1, 2

## 824541750
designator D?, comment 1500W, 7.5VDC  (value not drawn)
WE-TVSP SMT Power TVS Diode, DO-214AB, Bidirectional, 1500W, 7.5VDC; Manufacturer Part Number: 824541750; Manufacturer: Wurth Elektronik; Clamping Voltage: 12.9V; Operating Voltage (DC): 7.5V; (Reverse) Breakdown Voltage: 8.77V; (Reverse) Peak Pulse Current: 116.3A; ComponentLink1Description: Website Link; ComponentLink1URL: https://www.we-online.com/redexpert/article/824541750?ad; ComponentLink2Description: Datasheet Link; ComponentLink2URL: https://www.we-online.com/redexpert/spec/824541750?ad; Category: Surge Protection; Match Code: WE-TVSP; Mount: Surface Mount; Operating Temperature Max: 150°C; Operating Temperature Min: -65°C; Packaging: Tape and Reel; Case/Size Code: DO-214AB; Length: 6.86mm; Width: 5.9mm; Height: 2.5mm; Polarity: Bidirectional; Power Dissipation: 1500W
footprint WE-TVSP_DO-214AB_Bidirectional
pins: 1, 2

## 824541751
designator D?, comment 1500W, 75VDC  (value not drawn)
WE-TVSP SMT Power TVS Diode, DO-214AB, Bidirectional, 1500W, 75VDC; Manufacturer Part Number: 824541751; Manufacturer: Wurth Elektronik; Clamping Voltage: 121V; Operating Voltage (DC): 75V; (Reverse) Breakdown Voltage: 87.7V; (Reverse) Peak Pulse Current: 12.4A; ComponentLink1Description: Website Link; ComponentLink1URL: https://www.we-online.com/redexpert/article/824541751?ad; ComponentLink2Description: Datasheet Link; ComponentLink2URL: https://www.we-online.com/redexpert/spec/824541751?ad; Category: Surge Protection; Match Code: WE-TVSP; Mount: Surface Mount; Operating Temperature Max: 150°C; Operating Temperature Min: -65°C; Packaging: Tape and Reel; Case/Size Code: DO-214AB; Length: 6.86mm; Width: 5.9mm; Height: 2.5mm; Polarity: Bidirectional; Power Dissipation: 1500W
footprint WE-TVSP_DO-214AB_Bidirectional
pins: 1, 2

## 824541781
designator D?, comment 1500W, 78VDC  (value not drawn)
WE-TVSP SMT Power TVS Diode, DO-214AB, Bidirectional, 1500W, 78VDC; Manufacturer Part Number: 824541781; Manufacturer: Wurth Elektronik; Clamping Voltage: 126V; Operating Voltage (DC): 78V; (Reverse) Breakdown Voltage: 91.25V; (Reverse) Peak Pulse Current: 11.9A; ComponentLink1Description: Website Link; ComponentLink1URL: https://www.we-online.com/redexpert/article/824541781?ad; ComponentLink2Description: Datasheet Link; ComponentLink2URL: https://www.we-online.com/redexpert/spec/824541781?ad; Category: Surge Protection; Match Code: WE-TVSP; Mount: Surface Mount; Operating Temperature Max: 150°C; Operating Temperature Min: -65°C; Packaging: Tape and Reel; Case/Size Code: DO-214AB; Length: 6.86mm; Width: 5.9mm; Height: 2.5mm; Polarity: Bidirectional; Power Dissipation: 1500W
footprint WE-TVSP_DO-214AB_Bidirectional
pins: 1, 2

## 824541800
designator D?, comment 1500W, 8VDC  (value not drawn)
WE-TVSP SMT Power TVS Diode, DO-214AB, Bidirectional, 1500W, 8VDC; Manufacturer Part Number: 824541800; Manufacturer: Wurth Elektronik; Clamping Voltage: 13.6V; Operating Voltage (DC): 8V; (Reverse) Breakdown Voltage: 9.36V; (Reverse) Peak Pulse Current: 110.3A; ComponentLink1Description: Website Link; ComponentLink1URL: https://www.we-online.com/redexpert/article/824541800?ad; ComponentLink2Description: Datasheet Link; ComponentLink2URL: https://www.we-online.com/redexpert/spec/824541800?ad; Category: Surge Protection; Match Code: WE-TVSP; Mount: Surface Mount; Operating Temperature Max: 150°C; Operating Temperature Min: -65°C; Packaging: Tape and Reel; Case/Size Code: DO-214AB; Length: 6.86mm; Width: 5.9mm; Height: 2.5mm; Polarity: Bidirectional; Power Dissipation: 1500W
footprint WE-TVSP_DO-214AB_Bidirectional
pins: 1, 2

## 824541850
designator D?, comment 1500W, 8.5VDC  (value not drawn)
WE-TVSP SMT Power TVS Diode, DO-214AB, Bidirectional, 1500W, 8.5VDC; Manufacturer Part Number: 824541850; Manufacturer: Wurth Elektronik; Clamping Voltage: 14.4V; Operating Voltage (DC): 8.5V; (Reverse) Breakdown Voltage: 9.92V; (Reverse) Peak Pulse Current: 104.2A; ComponentLink1Description: Website Link; ComponentLink1URL: https://www.we-online.com/redexpert/article/824541850?ad; ComponentLink2Description: Datasheet Link; ComponentLink2URL: https://www.we-online.com/redexpert/spec/824541850?ad; Category: Surge Protection; Match Code: WE-TVSP; Mount: Surface Mount; Operating Temperature Max: 150°C; Operating Temperature Min: -65°C; Packaging: Tape and Reel; Case/Size Code: DO-214AB; Length: 6.86mm; Width: 5.9mm; Height: 2.5mm; Polarity: Bidirectional; Power Dissipation: 1500W
footprint WE-TVSP_DO-214AB_Bidirectional
pins: 1, 2

## 824541851
designator D?, comment 1500W, 85VDC  (value not drawn)
WE-TVSP SMT Power TVS Diode, DO-214AB, Bidirectional, 1500W, 85VDC; Manufacturer Part Number: 824541851; Manufacturer: Wurth Elektronik; Clamping Voltage: 137V; Operating Voltage (DC): 85V; (Reverse) Breakdown Voltage: 99.2V; (Reverse) Peak Pulse Current: 11A; ComponentLink1Description: Website Link; ComponentLink1URL: https://www.we-online.com/redexpert/article/824541851?ad; ComponentLink2Description: Datasheet Link; ComponentLink2URL: https://www.we-online.com/redexpert/spec/824541851?ad; Category: Surge Protection; Match Code: WE-TVSP; Mount: Surface Mount; Operating Temperature Max: 150°C; Operating Temperature Min: -65°C; Packaging: Tape and Reel; Case/Size Code: DO-214AB; Length: 6.86mm; Width: 5.9mm; Height: 2.5mm; Polarity: Bidirectional; Power Dissipation: 1500W
footprint WE-TVSP_DO-214AB_Bidirectional
pins: 1, 2

## 824541900
designator D?, comment 1500W, 9VDC  (value not drawn)
WE-TVSP SMT Power TVS Diode, DO-214AB, Bidirectional, 1500W, 9VDC; Manufacturer Part Number: 824541900; Manufacturer: Wurth Elektronik; Clamping Voltage: 15.4V; Operating Voltage (DC): 9V; (Reverse) Breakdown Voltage: 10.55V; (Reverse) Peak Pulse Current: 97.4A; ComponentLink1Description: Website Link; ComponentLink1URL: https://www.we-online.com/redexpert/article/824541900?ad; ComponentLink2Description: Datasheet Link; ComponentLink2URL: https://www.we-online.com/redexpert/spec/824541900?ad; Category: Surge Protection; Match Code: WE-TVSP; Mount: Surface Mount; Operating Temperature Max: 150°C; Operating Temperature Min: -65°C; Packaging: Tape and Reel; Case/Size Code: DO-214AB; Length: 6.86mm; Width: 5.9mm; Height: 2.5mm; Polarity: Bidirectional; Power Dissipation: 1500W
footprint WE-TVSP_DO-214AB_Bidirectional
pins: 1, 2

## 824541901
designator D?, comment 1500W, 90VDC  (value not drawn)
WE-TVSP SMT Power TVS Diode, DO-214AB, Bidirectional, 1500W, 90VDC; Manufacturer Part Number: 824541901; Manufacturer: Wurth Elektronik; Clamping Voltage: 146V; Operating Voltage (DC): 90V; (Reverse) Breakdown Voltage: 105.5V; (Reverse) Peak Pulse Current: 10.3A; ComponentLink1Description: Website Link; ComponentLink1URL: https://www.we-online.com/redexpert/article/824541901?ad; ComponentLink2Description: Datasheet Link; ComponentLink2URL: https://www.we-online.com/redexpert/spec/824541901?ad; Category: Surge Protection; Match Code: WE-TVSP; Mount: Surface Mount; Operating Temperature Max: 150°C; Operating Temperature Min: -65°C; Packaging: Tape and Reel; Case/Size Code: DO-214AB; Length: 6.86mm; Width: 5.9mm; Height: 2.5mm; Polarity: Bidirectional; Power Dissipation: 1500W
footprint WE-TVSP_DO-214AB_Bidirectional
pins: 1, 2

## 824550101
designator D?, comment 3000W, 10VDC  (value not drawn)
WE-TVSP SMT Power TVS Diode, DO-214AB, Unidirectional, 3000W, 10VDC; Manufacturer Part Number: 824550101; Manufacturer: Wurth Elektronik; Clamping Voltage: 17V; Operating Voltage (DC): 10V; (Reverse) Breakdown Voltage: 11.7V; (Reverse) Peak Pulse Current: 176.5A; ComponentLink1Description: Website Link; ComponentLink1URL: https://www.we-online.com/redexpert/article/824550101?ad; ComponentLink2Description: Datasheet Link; ComponentLink2URL: https://www.we-online.com/redexpert/spec/824550101?ad; Category: Surge Protection; Match Code: WE-TVSP; Mount: Surface Mount; Operating Temperature Max: 150°C; Operating Temperature Min: -65°C; Packaging: Tape and Reel; Case/Size Code: DO-214AB; Length: 6.86mm; Width: 5.9mm; Height: 2.5mm; Polarity: Unidirectional; Power Dissipation: 3000W
footprint WE-TVSP_DO-214AB_Unidirectional
pins: 1 K, 2 A